# Altium schematic symbol library Schlib2.SchLib: 1 symbol
Pins are listed as number, name and electrical type; pins without a type are passive.

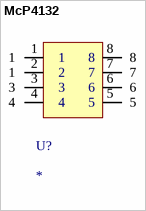
[diagram p0: symbol McP4132]

## McP4132
designator U?
Digital Pot
pins: 1, 2 1, 3, 4, 5, 6, 7, 8